# Altium schematic symbol library Schlib1.SchLib: 1 symbol
Pins are listed as number, name and electrical type; pins without a type are passive.

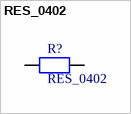
[diagram p0: symbol RES_0402]

## RES_0402
designator R?
Resistance  SMD RES_0402 Generic; Manufacturer: *; Manufacturer Part Number: *; Supplier: *; Supplier Part Number: *
footprint RES_0402 (Chip Resistor, 2-Leads, Body 1.00x0.50mm, IPC Medium Density)
pins: 1, 2